# EAGLE library part OP77 (library OP)
OP-77
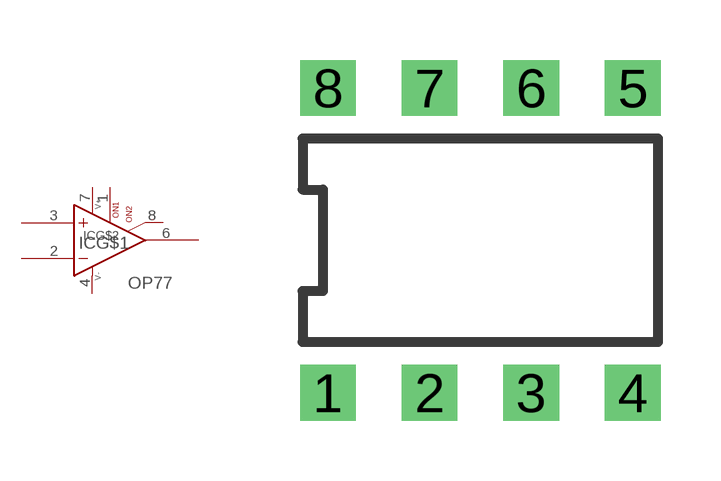
[diagram p12: symbol with the pads of DIL8; footprint DIL8]

Designator prefix IC; gates G$1=2NUL G$2=PWR+-04

## OP77  [DIL8]
1  G$1:ON1  pas
2  G$1:-IN  in
3  G$1:+IN  in
4  G$2:V-  pwr
5  G$1:OPT  nc
6  G$1:OUT  out
7  G$2:V+  pwr
8  G$1:ON2  pas

## Footprint DIL8 (pad centres in mm)
drill 0.8 pad 1.397 square: 1 0,0; 2 2.54,0; 3 5.08,0; 4 7.62,0; 5 7.62,7.62; 6 5.08,7.62; 7 2.54,7.62; 8 0,7.62